# Altium footprint library UC-PCB.PcbLib: 145 footprints (part 7 of 10)
Each footprint in its own frame and in the unit in brackets; x right, y up, seen from the top. Pads: shape width x height; smd on the part's side, far side on the other; paste and mask are expansions set on the pad; w line width, h text height; cw(c..) or ccw(c..) is an arc to the next point about the centre after c.
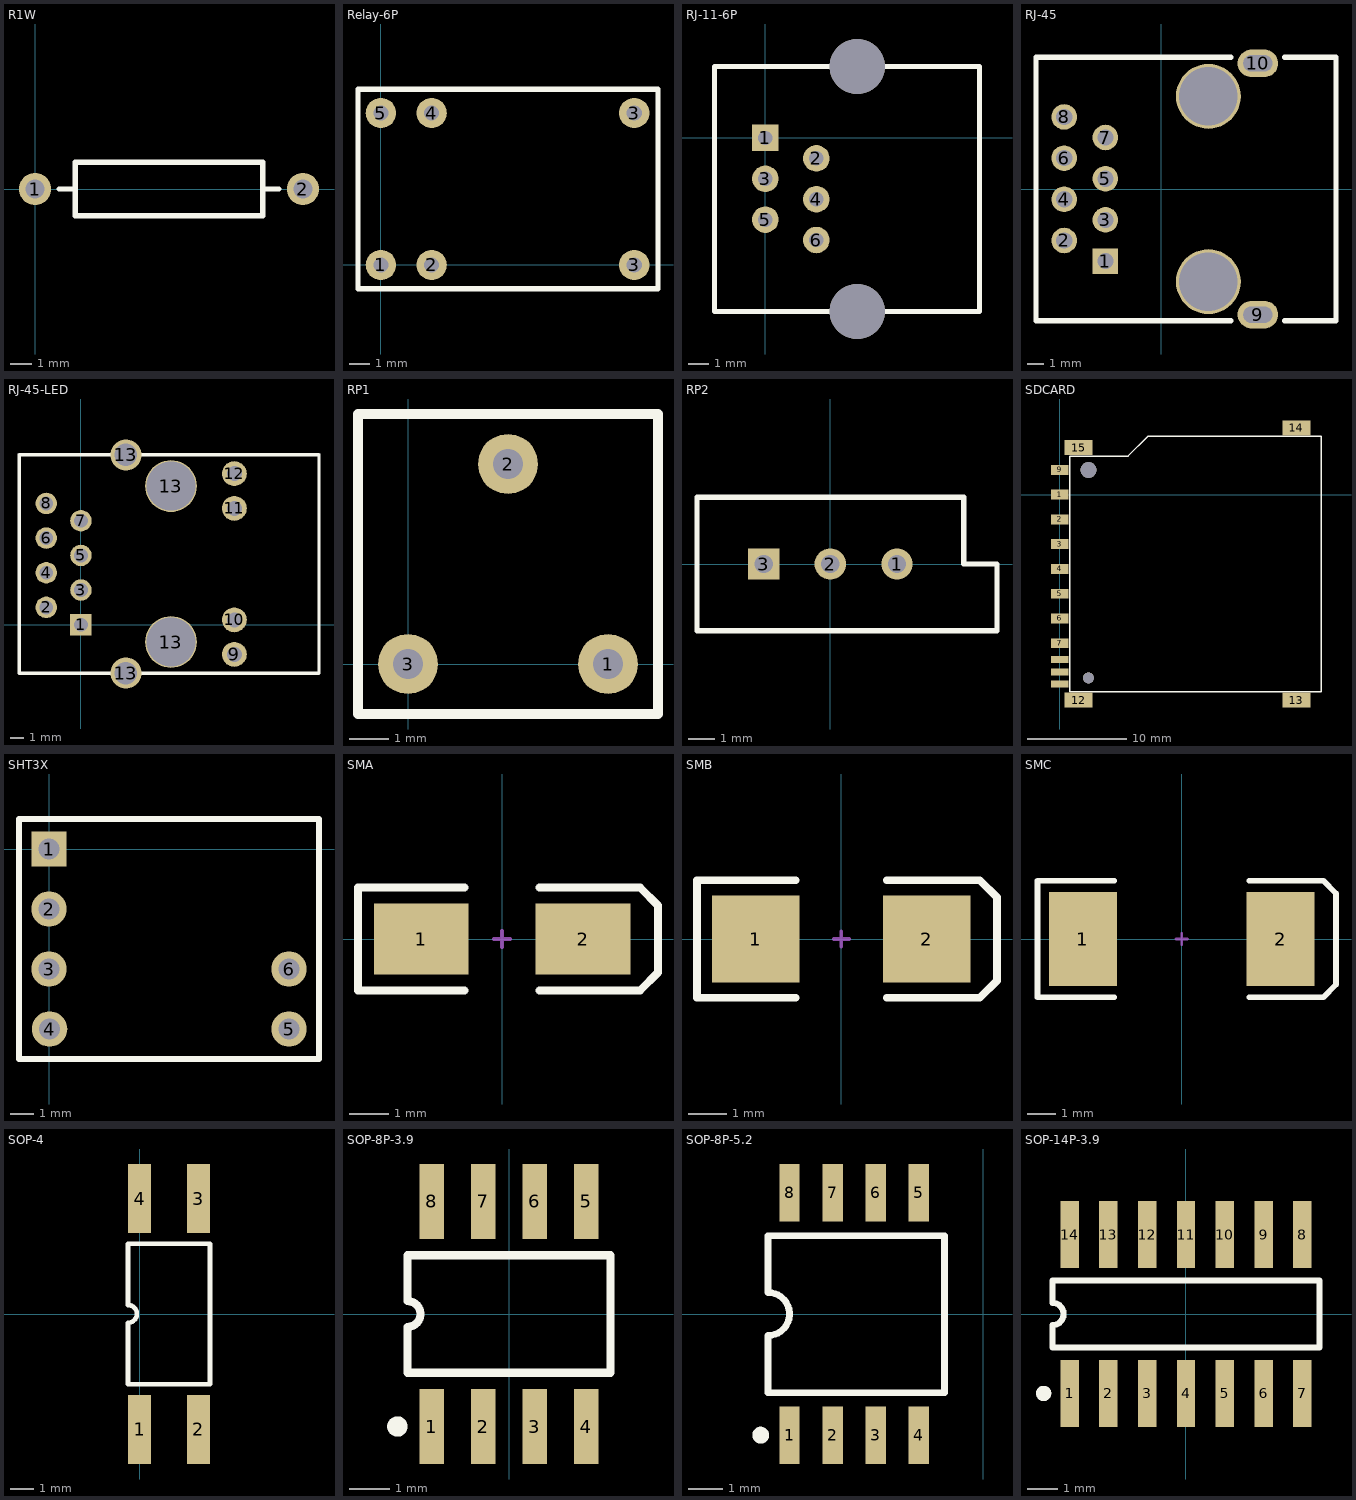
[diagram p6: the footprints below, top view; thin cyan lines are the x and y axes]

## R1W [mil]
pads (2):
  round 60 hole 35.43: 1(0,0) 2(500,0)
Top Overlay:
  lines w10: 45,0 75,0 ; 425,0 455,0 ; 75,-50 425,-50 425,50 75,50 75,-50

## Relay-6P [mil]
pads (6):
  round 60 hole 30: 1(0,0) 2(100,0) 3(500,0) 3(500,300) 4(100,300) 5(0,300)
Top Overlay:
  lines w10: -45.28,-46.85 546.85,-46.85 546.85,346.85 -45.28,346.85 -45.28,-46.85

## RJ-11-6P [mm]
pads (8):
  rect 1.3x1.3 hole 0.7: 1(0,0)
  round 1.3 hole 0.7: 2(2.5,-1) 3(0,-2) 4(2.5,-3) 5(0,-4) 6(2.5,-5)
  round 2.7 hole 2.7: ""(4.5,-8.5) ""(4.5,3.5)
Top Overlay:
  lines w0.254: -2.5,-8.5 10.5,-8.5 10.5,3.5 -2.5,3.5 -2.5,-8.5

## RJ-45 [mm]
pads (12):
  rect 1.575x1.575 hole 1: 1(-3.43,-4.445)
  round 1.575 hole 1: 2(-5.97,-3.175) 3(-3.43,-1.905) 4(-5.97,-0.635) 5(-3.43,0.635) 6(-5.97,1.905) 7(-3.43,3.175) 8(-5.97,4.445)
  oval 2.5x1.7 hole 1 slot 1.8 at 0 deg: 9(5.97,-7.75) 10(5.97,7.75)
  round 4 hole 3.6: ""(2.92,-5.715) ""(2.92,5.715)
Top Overlay:
  lines w0.33: 4.318,-8.128 -7.71,-8.128 -7.71,8.128 4.318,8.128 ; 7.62,-8.128 10.79,-8.128 10.79,8.128 7.62,8.128

## RJ-45-LED [mil]
pads (16):
  rect 62x62 hole 40: 1(0,0)
  round 62 hole 40: 2(-100,50) 3(0,100) 4(-100,150) 5(0,200) 6(-100,250) 7(0,300) 8(-100,350)
  round 72 hole 43.31: 9(442.91,-85.63) 10(442.91,14) 11(442.91,335.87) 12(442.91,436)
  round 90 hole 65: 13(129.92,-139.76) 13(129.92,490.16)
  round 149.61 hole 141.73: 13(260,-50) 13(260,400)
Top Overlay:
  lines w10: -178.74,-140 -178.5,-139.76 ; -178.74,490 -178.58,490.16 ; -178.58,490.16 -178.58,-139.69 -178.5,-139.76 ; -178.58,490.16 129.92,490.16 687.24,490.16 687.4,490 687.4,-140 687.17,-139.76 129.92,-139.76 -178.5,-139.76

## RP1 [mil]
pads (3):
  round 60 hole 30: 1(200,0) 2(100,200) 3(0,0)
Top Overlay:
  lines w10: -50,-50 250,-50 250,250 -50,250 -50,-50

## RP2 [mm] "3296W可调电阻"
pads (3):
  round 1.2 hole 0.7: 1(2.54,0) 2(0,0)
  rect 1.2x1.2 hole 0.7: 3(-2.54,0)
Top Overlay:
  lines w0.2: -5.08,-2.54 6.35,-2.54 6.35,0 5.08,0 5.08,2.54 -5.08,2.54 -5.08,-2.54

## SDCARD [mm]
pads (17):
  rect 1.8x1 smd: 1(0,0) 2(0,-2.5) 3(0,-5) 4(0,-7.5) 5(0,-10) 6(0,-12.5) 7(0,-15) 9(0,2.5)
  rect 1.8x0.7 smd: 8(0,-16.625) 10(0,-17.925) 11(0,-19.125)
  rect 2.8x1.5 smd: 12(1.9,-20.75) 13(23.9,-20.75) 14(23.9,6.75) 15(1.9,4.75)
  round 1.1 hole 1.1: ""(2.9,-18.5)
  round 1.6 hole 1.6: ""(2.9,2.5)
Top Overlay:
  lines w0.152: 1,-19.9 1,3.9 6.9,3.9 8.9,5.9 26.4,5.9 26.4,-19.9 1,-19.9

## SHT3X [mm]
pads (6):
  rect 1.5x1.5 hole 0.9: 1(0,0)
  round 1.5 hole 0.9: 2(0,-2.54) 3(0,-5.08) 4(0.025,-7.62) 5(10.16,-7.62) 6(10.16,-5.08)
Top Overlay:
  lines w0.254: -1.27,-8.89 11.43,-8.89 11.43,1.27 -1.27,1.27 -1.27,-8.89

## SMA [mm] "DO-214-AC/SMA; 2 C-Bend Leads; Body 5 x 2.7 mm, inc. leads (LxW)"
height 2.44
pads (2):
  rect 2.4x1.8 smd: 1(-2.05,0) 2(2.05,0)
Top Overlay:
  lines w0.2: -0.95,-1.3 -3.65,-1.3 -3.65,1.3 -0.95,1.3 ; 0.95,-1.3 3.5,-1.3 3.95,-0.85 3.95,0.85 3.5,1.3 0.95,1.3
Mechanical 1:
  lines w0.1: -0.2,0 0.2,0 ; 0,-0.2 0,0.2

## SMB [mm] "DO-214-AA/SMB; 2 C-Bend Leads; Body 5.3 x 3.6 mm, inc. leads (LxW)"
height 2.54
pads (2):
  rect 2.3x2.3 smd: 1(-2.25,0) 2(2.25,0)
Top Overlay:
  lines w0.2: -1.2,-1.55 -3.8,-1.55 -3.8,1.55 -1.2,1.55 ; 1.2,-1.55 3.65,-1.55 4.1,-1.1 4.1,1.1 3.65,1.55 1.2,1.55
Mechanical 1:
  lines w0.1: -0.2,0 0.2,0 ; 0,-0.2 0,0.2

## SMC [mm] "DO-214-AB/SMC; 2 C-Bend Leads; Body 7.9 x 5.9 mm, inc. leads (LxW)"
height 2.57
pads (2):
  rect 2.4x3.3 smd: 1(-3.475,0) 2(3.475,0)
Top Overlay:
  lines w0.2: -2.375,-2.05 -5.075,-2.05 -5.075,2.05 -2.375,2.05 ; 2.375,-2.05 4.975,-2.05 5.425,-1.6 5.425,1.6 4.975,2.055 ; 2.375,2.05 4.975,2.05
Mechanical 1:
  lines w0.1: -0.2,0 0.2,0 ; 0,-0.2 0,0.2

## SOP-4 [mm]
height 1.75
pads (4):
  rect 1x3 smd: 1(0,-5) 2(2.54,-5) 3(2.54,5) 4(0,5)
Top Overlay:
  lines w0.2: -0.508,0.381 -0.508,3.048 3.048,3.048 3.048,-3.048 -0.508,-3.048 -0.508,-0.381 ccw(c-0.508,0.005) -0.508,0.392

## SOP-8P-3.9 [mm]
height 1.75
pads (8):
  rect 0.6x1.85 smd: 1(-1.905,-2.775) 2(-0.635,-2.775) 3(0.635,-2.775) 4(1.905,-2.775) 5(1.905,2.775) 6(0.635,2.775) 7(-0.635,2.775) 8(-1.905,2.775)
Top Overlay:
  circle w0.25: c-2.755,-2.775 r0.125
  lines w0.2: -2.5,-1.45 -2.5,-0.318 ccw(c-2.5,0) -2.5,0.318 -2.5,1.45 2.5,1.45 2.5,-1.45 -2.5,-1.45

## SOP-8P-5.2 [mm]
height 2.1
pads (8):
  rect 0.6x1.7 smd: 1(-5.715,-3.575) 2(-4.445,-3.575) 3(-3.175,-3.575) 4(-1.905,-3.575) 5(-1.905,3.575) 6(-3.175,3.575) 7(-4.445,3.575) 8(-5.715,3.575)
Top Overlay:
  circle w0.25: c-6.565,-3.575 r0.125
  lines w0.2: -1.143,-2.325 -6.35,-2.325 -6.35,-0.635 ccw(c-6.35,0) -6.35,0.635 -6.35,2.311 -1.143,2.311 -1.143,-2.311

## SOP-14P-3.9 [mm]
height 1.75
pads (14):
  rect 0.6x2.2 smd: 1(-3.81,-2.6) 2(-2.54,-2.6) 3(-1.27,-2.6) 4(0,-2.6) 5(1.27,-2.6) 6(2.54,-2.6) 7(3.81,-2.6) 8(3.81,2.6) 9(2.54,2.6) 10(1.27,2.6) 11(0,2.6) 12(-1.27,2.6) 13(-2.54,2.6) 14(-3.81,2.6)
Top Overlay:
  circle w0.25: c-4.66,-2.6 r0.125
  lines w0.2: -4.375,-1.1 4.375,-1.1 4.375,1.1 -4.375,1.1 -4.375,0.367 cw(c-4.375,0) -4.375,-0.367 -4.375,-1.1